# EAGLE library part AK5384 (library akm)
Audio ADC 96kHz, 24-Bit, 4ch, Delta Sigma
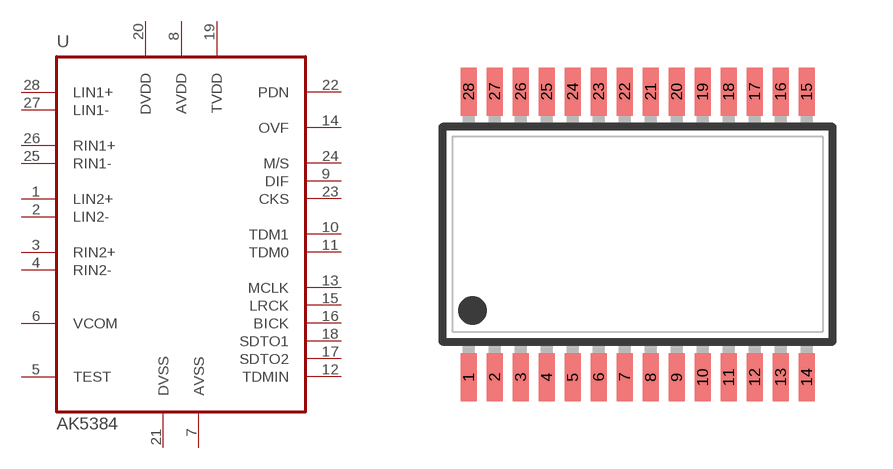
[diagram p24: symbol with the pads of VSOP28; footprint VSOP28]

Designator prefix U

## AK5384  [VSOP28]
1  LIN2+  in
2  LIN2-  in
3  RIN2+  in
4  RIN2-  in
5  TEST  in
6  VCOM  out
7  AVSS  pwr
8  AVDD  pwr
9  DIF  in
10  TDM1  in
11  TDM0  in
12  TDMIN  in
13  MCLK  in
14  OVF  out
15  LRCK
16  BICK
17  SDTO2  out
18  SDTO1  out
19  TVDD  pwr
20  DVDD  pwr
21  DVSS  pwr
22  PDN  in
23  CKS  in
24  M/S  in
25  RIN1-  in
26  RIN1+  in
27  LIN1-  in
28  LIN1+  in

## Footprint VSOP28 (pad centres in mm)
VSOP28 9.8 x 5.6 mm, pitch .65 mm
smd 0.4 x 1.2: 1 -4.225,-3.57; 2 -3.575,-3.57; 3 -2.925,-3.57; 4 -2.275,-3.57; 5 -1.625,-3.57; 6 -0.975,-3.57; 7 -0.325,-3.57; 8 0.325,-3.57; 9 0.975,-3.57; 10 1.625,-3.57; 11 2.275,-3.57; 12 2.925,-3.57; 13 3.575,-3.57; 14 4.225,-3.57; 15 4.225,3.57; 16 3.575,3.57; 17 2.925,3.57; 18 2.275,3.57; 19 1.625,3.57; 20 0.975,3.57; 21 0.325,3.57; 22 -0.325,3.57; 23 -0.975,3.57; 24 -1.625,3.57; 25 -2.275,3.57; 26 -2.925,3.57; 27 -3.575,3.57; 28 -4.225,3.57